# Altium footprint library FCI USB 61729-1011BLF.PCBLIB: 1 footprints
Each footprint in its own frame and in the unit in brackets; x right, y up, seen from the top. Pads: shape width x height; smd on the part's side, far side on the other; paste and mask are expansions set on the pad; w line width, h text height; cw(c..) or ccw(c..) is an arc to the next point about the centre after c.
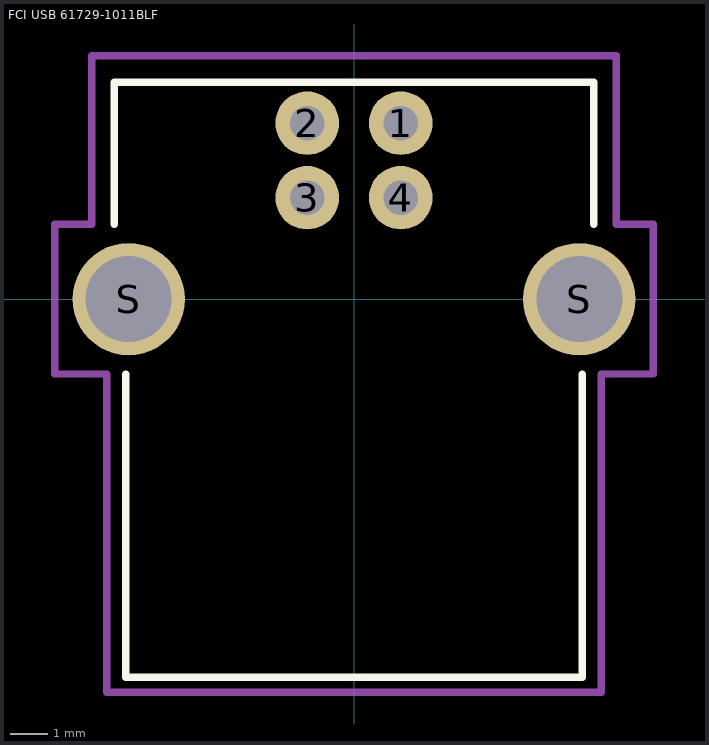
[diagram p0: the footprint, top view; thin cyan lines are the x and y axes]

## FCI USB 61729-1011BLF [mm]
height 11
pads (6):
  round 1.7 hole 0.92: 1(1.25,4.7) 2(-1.25,4.7) 3(-1.25,2.71) 4(1.25,2.71)
  round 3 hole 2.3: S(-6.02,0) S(6.02,0)
Top Overlay:
  lines w0.2: -6.4,2 -6.4,5.8 6.4,5.8 6.4,2 ; -6.1,-2 -6.1,-10.1 6.1,-10.1 6.1,-2
Mechanical 15:
  lines w0.2: -8,-2 -8,2 -7,2 -7,6.5 0,6.5 7,6.5 7,2 8,2 8,-2 6.6,-2 6.6,-10.5 0,-10.5 -6.6,-10.5 -6.6,-2 -8,-2
3D body "FCI 61729-1011BLF.STEP": height 11, standoff -2.8, extent -6.56,-10.175 6.56,5.765